# EAGLE library part ARJM11D7-009-AB-EW2 (library ARJM11D7-009-AB-EW2)
Telecom and Datacom Connector, 8 Contact(s), Female, Right Angle, Solder Terminal, Locking, Jack Source: Datasheet <https://abracon.com/Magnetics/ARJM11.pdf>
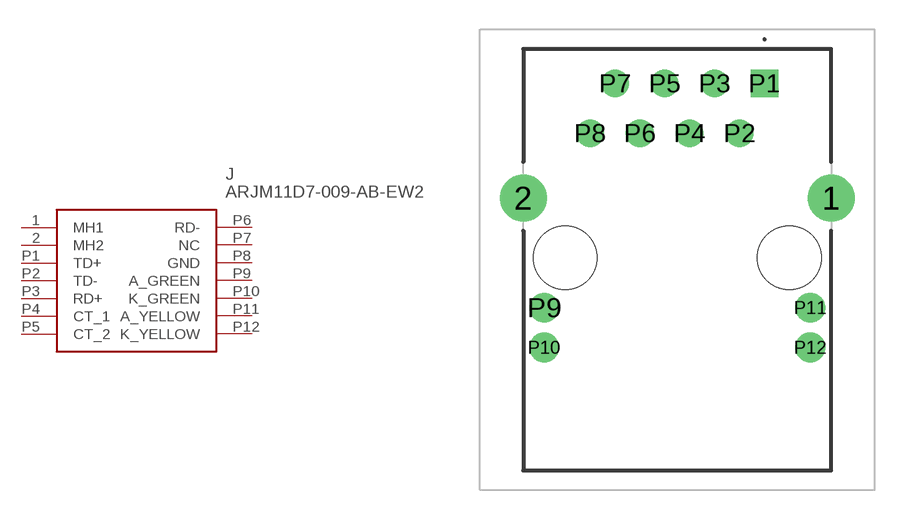
[diagram p0: symbol with the pads of ARJM11D7009ABEW2; footprint ARJM11D7009ABEW2]

Designator prefix J

## ARJM11D7-009-AB-EW2 (Description: Telecom and Datacom Connector, 8 Contact(s), Female, Right Angle, Solder Terminal, Locking, Jack; Height: 14.05mm; Manufacturer_Name: ABRACON; Manufacturer_Part_Number: ARJM11D7-009-AB-EW2; Mouser_Part_Number: 815-RJM11D7009ABEW2; Mouser_Price-Stock: https://www.mouser.co.uk/ProductDetail/ABRACON/ARJM11D7-009-AB-EW2?qs=YCa%2FAAYMW01wgGAVSiGYdQ%3D%3D)  [ARJM11D7009ABEW2]
1  MH1
2  MH2
P1  TD+
P2  TD-
P3  RD+
P4  CT_1
P5  CT_2
P6  RD-
P7  NC  nc
P8  GND
P9  A_GREEN
P10  K_GREEN
P11  A_YELLOW
P12  K_YELLOW

## Footprint ARJM11D7009ABEW2 (pad centres in mm)
ARJM11D7-009-AB-EW2-6
drill 1.6 pad 2.4: 1 3.405,-5.84; 2 -12.295,-5.84
drill 0.9 pad 1.4 square: P1 0,0
drill 0.9 pad 1.4: P2 -1.27,-2.54; P3 -2.54,0; P4 -3.81,-2.54; P5 -5.08,0; P6 -6.35,-2.54; P7 -7.62,0; P8 -8.89,-2.54
drill 1 pad 1.5: P9 -11.23,-11.43; P10 -11.23,-13.46; P11 2.34,-11.43; P12 2.34,-13.46
hole 3.25 at 1.27,-8.89
hole 3.25 at -10.16,-8.89